# Altium footprint library SamacSys.PcbLib: 6 footprints
Each footprint in its own frame and in the unit in brackets; x right, y up, seen from the top. Pads: shape width x height; smd on the part's side, far side on the other; paste and mask are expansions set on the pad; w line width, h text height; cw(c..) or ccw(c..) is an arc to the next point about the centre after c.
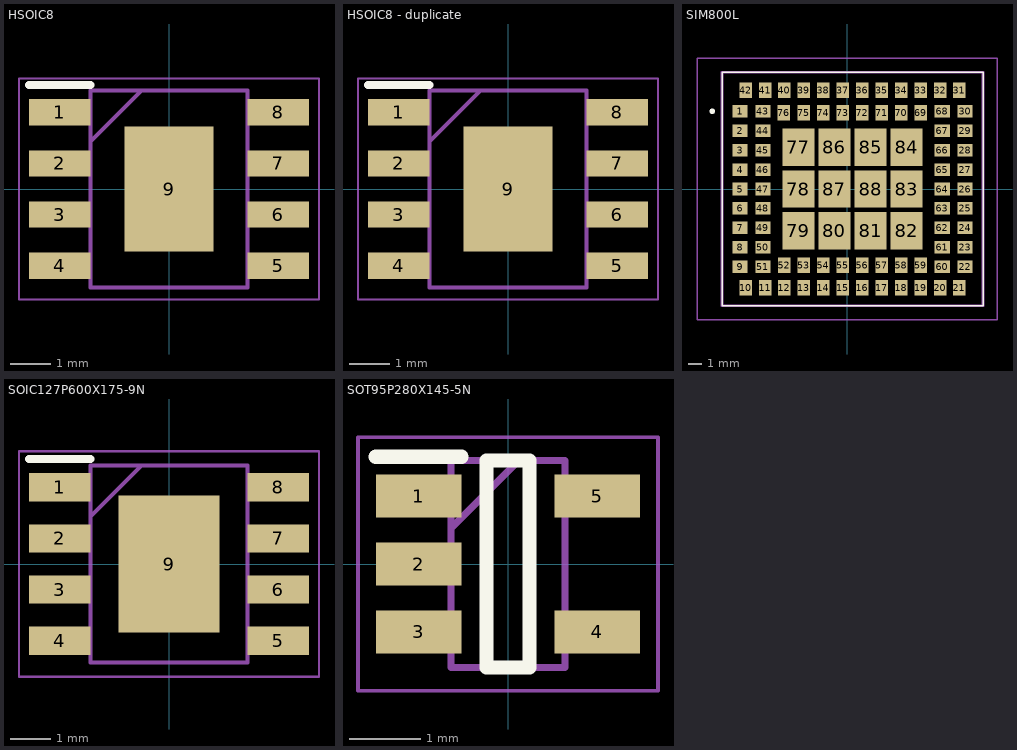
[diagram p0: the footprints below, top view; thin cyan lines are the x and y axes]

## HSOIC8 [mm]
pads (9):
  rect 1.525x0.65 smd: 1(-2.712,1.905) 2(-2.712,0.635) 3(-2.712,-0.635) 4(-2.712,-1.905) 5(2.712,-1.905) 6(2.712,-0.635) 7(2.712,0.635) 8(2.712,1.905)
  rect 2.2x3.1 smd: 9(0,0)
Top Overlay:
  lines w0.2: -3.475,2.58 -1.95,2.58
Mechanical 13:
  lines w0.1: -1.95,1.18 -0.68,2.45 ; -1.95,-2.45 -1.95,2.45 1.95,2.45 1.95,-2.45 -1.95,-2.45
Mechanical 15:
  lines w0.05: -3.725,-2.75 -3.725,2.75 3.725,2.75 3.725,-2.75 -3.725,-2.75
3D body "ST1S41PHR.stp": height 1.7, standoff 0, extent -3,-2.45 3,2.45

## HSOIC8 - duplicate [mm]
pads (9):
  rect 1.525x0.65 smd: 1(-2.712,1.905) 2(-2.712,0.635) 3(-2.712,-0.635) 4(-2.712,-1.905) 5(2.712,-1.905) 6(2.712,-0.635) 7(2.712,0.635) 8(2.712,1.905)
  rect 2.2x3.1 smd: 9(0,0)
Top Overlay:
  lines w0.2: -3.475,2.58 -1.95,2.58
Mechanical 13:
  lines w0.1: -1.95,1.18 -0.68,2.45 ; -1.95,-2.45 -1.95,2.45 1.95,2.45 1.95,-2.45 -1.95,-2.45
Mechanical 15:
  lines w0.05: -3.725,-2.75 -3.725,2.75 3.725,2.75 3.725,-2.75 -3.725,-2.75
3D body "ST1S41PHR.stp": height 1.7, standoff 0, extent -3,-2.45 3,2.45

## PCBComponent_1 [mm]

## SIM800L [mm]
pads (88):
  rect 1.1x0.9 smd: 1(-7.7,5.6) 2(-7.7,4.2) 3(-7.7,2.8) 4(-7.7,1.4) 5(-7.7,0) 6(-7.7,-1.4) 7(-7.7,-2.8) 8(-7.7,-4.2) 9(-7.7,-5.6) 22(8.5,-5.6) 23(8.5,-4.2) 24(8.5,-2.8) 25(8.5,-1.4) 26(8.5,0) 27(8.5,1.4) 28(8.5,2.8) 29(8.5,4.2) 30(8.5,5.6) 43(-6.05,5.6) 44(-6.05,4.2) 45(-6.05,2.8) 46(-6.05,1.4) 47(-6.05,0) 48(-6.05,-1.4) 49(-6.05,-2.8) 50(-6.05,-4.2) 51(-6.05,-5.6) 60(6.85,-5.6) 61(6.85,-4.2) 62(6.85,-2.8) 63(6.85,-1.4) 64(6.85,0) 65(6.85,1.4) 66(6.85,2.8) 67(6.85,4.2) 68(6.85,5.6)
  rect 0.9x1.1 smd: 10(-7.3,-7.1) 11(-5.9,-7.1) 12(-4.5,-7.1) 13(-3.1,-7.1) 14(-1.7,-7.1) 15(-0.3,-7.1) 16(1.1,-7.1) 17(2.5,-7.1) 18(3.9,-7.1) 19(5.3,-7.1) 20(6.7,-7.1) 21(8.1,-7.1) 31(8.1,7.1) 32(6.7,7.1) 33(5.3,7.1) 34(3.9,7.1) 35(2.5,7.1) 36(1.1,7.1) 37(-0.3,7.1) 38(-1.7,7.1) 39(-3.1,7.1) 40(-4.5,7.1) 41(-5.9,7.1) 42(-7.3,7.1) 52(-4.5,-5.5) 53(-3.1,-5.5) 54(-1.7,-5.5) 55(-0.3,-5.5) 56(1.1,-5.5) 57(2.5,-5.5) 58(3.9,-5.5) 59(5.3,-5.5) 69(5.3,5.5) 70(3.9,5.5) 71(2.5,5.5) 72(1.1,5.5) 73(-0.3,5.5) 74(-1.7,5.5) 75(-3.1,5.5) 76(-4.55,5.5)
  rect 2.3x2.7 smd: 77(-3.5,3) 78(-3.5,0) 79(-3.5,-3) 80(-0.9,-3) 81(1.7,-3) 82(4.3,-3) 83(4.3,0) 84(4.3,3) 85(1.7,3) 86(-0.9,3) 87(-0.9,0) 88(1.7,0)
Top Overlay:
  lines w0.1: -9,-8.4 -9,8.4 9.8,8.4 9.8,-8.4 -9,-8.4
  lines w0.2: -9.7,5.5 ccw(c-9.7,5.6) -9.7,5.7 ccw(c-9.7,5.6) -9.7,5.5
Mechanical 13:
  lines w0.2: -9,-8.4 -9,8.4 9.8,8.4 9.8,-8.4 -9,-8.4
Mechanical 15:
  lines w0.1: -10.8,-9.4 -10.8,9.4 10.8,9.4 10.8,-9.4 -10.8,-9.4
3D body "SIM800L.stp": height 2.42, standoff 0, extent -8.786,-7.896 9.014,7.904

## SOIC127P600X175-9N [mm]
pads (9):
  rect 1.525x0.7 smd: 1(-2.712,1.905) 2(-2.712,0.635) 3(-2.712,-0.635) 4(-2.712,-1.905) 5(2.712,-1.905) 6(2.712,-0.635) 7(2.712,0.635) 8(2.712,1.905)
  rect 2.513x3.402 smd: 9(0,0)
Top Overlay:
  lines w0.2: -3.475,2.605 -1.95,2.605
Mechanical 13:
  lines w0.1: -1.95,1.18 -0.68,2.45 ; -1.95,-2.45 1.95,-2.45 1.95,2.45 -1.95,2.45 -1.95,-2.45
Mechanical 15:
  lines w0.05: -3.725,-2.8 3.725,-2.8 3.725,2.8 -3.725,2.8 -3.725,-2.8
3D body "TP4056.stp": height 1.75, standoff 0, extent -3,-2.45 3,2.45

## SOT95P280X145-5N [mm]
pads (5):
  rect 1.2x0.6 smd: 1(-1.25,0.95) 2(-1.25,0) 3(-1.25,-0.95) 4(1.25,-0.95) 5(1.25,0.95)
Top Overlay:
  lines w0.2: -1.85,1.5 -0.65,1.5 ; -0.3,-1.45 0.3,-1.45 0.3,1.45 -0.3,1.45 -0.3,-1.45
Mechanical 13:
  lines w0.1: -0.8,0.5 0.15,1.45 ; -0.8,-1.45 0.8,-1.45 0.8,1.45 -0.8,1.45 -0.8,-1.45
Mechanical 15:
  lines w0.05: -2.1,-1.775 2.1,-1.775 2.1,1.775 -2.1,1.775 -2.1,-1.775
3D body "INA138NA_250.stp": height 1.2, standoff 0, extent -1.4,-1.45 1.4,1.45